# EAGLE library part ADG794 (library analog-devices)
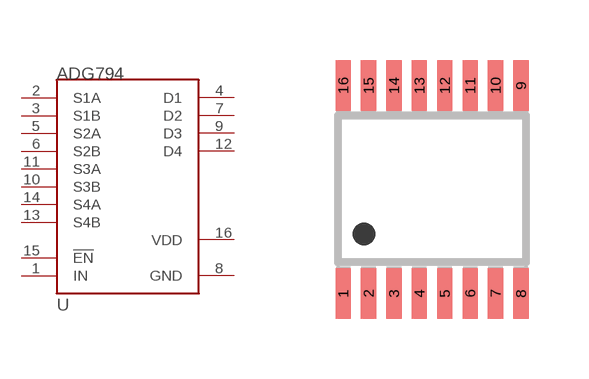
[diagram p0: symbol with the pads of QSOP16; footprint QSOP16]

Designator prefix -

## ADG794  [QSOP16]
1  IN
2  S1A
3  S1B
4  D1
5  S2A
6  S2B
7  D2
8  GND
9  D3
10  S3B
11  S3A
12  D4
13  S4B
14  S4A
15  !EN
16  VDD

## Footprint QSOP16 (pad centres in mm)
16-Lead Shrink Small Outline Package QSOP (RQ-16) Source: ADG658_659.pdf
smd 0.381 x 1.27: 1 -2.223,-2.6; 2 -1.587,-2.6; 3 -0.953,-2.6; 4 -0.318,-2.6; 5 0.318,-2.6; 6 0.953,-2.6; 7 1.587,-2.6; 8 2.223,-2.6; 9 2.223,2.6; 10 1.587,2.6; 11 0.953,2.6; 12 0.318,2.6; 13 -0.318,2.6; 14 -0.953,2.6; 15 -1.587,2.6; 16 -2.223,2.6